# EAGLE library part PCA9661 (library nxp_60)
The PCA9661 is an advanced single master mode I2C-bus controller. It is a fourth generation bus controller designed for data intensive I2C-bus data transfers. AAL Eindhoven MK
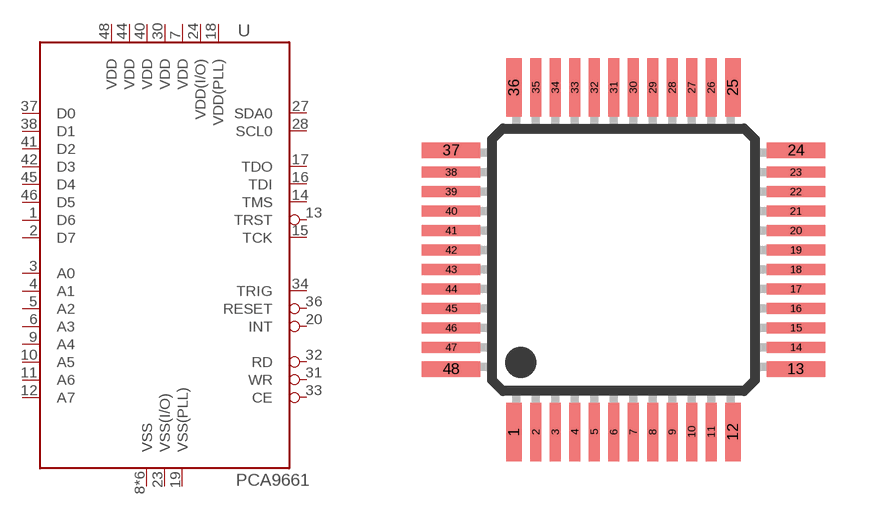
[diagram p49: symbol with the pads of SOT313-2; footprint SOT313-2]

Designator prefix U

## PCA9661B  [SOT313-2]
1  D6
2  D7
3  A0  in
4  A1  in
5  A2  in
6  A3  in
7  VDD  pwr
8  VSS  pwr
9  A4  in
10  A5  in
11  A6  in
12  A7  in
13  TRST  in
14  TMS  in
15  TCK  in
16  TDI  in
17  TDO  out
18  VDD(PLL)  pwr
19  VSS(PLL)  pwr
20  INT  out
23  VSS(I/O)  pwr
24  VDD(I/O)  pwr
27  SDA0
28  SCL0
29  VSS  pwr
30  VDD  pwr
31  WR  in
32  RD  in
33  CE  in
34  TRIG  in
35  VSS  pwr
36  RESET  in
37  D0
38  D1
39  VSS  pwr
40  VDD  pwr
41  D2
42  D3
43  VSS  pwr
44  VDD  pwr
45  D4
46  D5
47  VSS  pwr
48  VDD  pwr

## Footprint SOT313-2 (pad centres in mm)
SOT313-2 LQFP48: plastic low profile quad flat package; 48 leads; body 7 x 7 x 1.4 mm JEDEC: MS-026 IEC: 136E05 Footprint according to NXP SOT313-2 specification, however the cornerpins are 0.4mm in stead of 0.5mm. Probably an error in the specification.
smd 0.4 x 1.5: 1 -2.81,-4.425; 12 2.81,-4.425; 25 2.81,4.425; 36 -2.81,4.425
smd 0.28 x 1.5: 2 -2.25,-4.425; 3 -1.75,-4.425; 4 -1.25,-4.425; 5 -0.75,-4.425; 6 -0.25,-4.425; 7 0.25,-4.425; 8 0.75,-4.425; 9 1.25,-4.425; 10 1.75,-4.425; 11 2.25,-4.425; 26 2.25,4.425; 27 1.75,4.425; 28 1.25,4.425; 29 0.75,4.425; 30 0.25,4.425; 31 -0.25,4.425; 32 -0.75,4.425; 33 -1.25,4.425; 34 -1.75,4.425; 35 -2.25,4.425
smd 1.5 x 0.4: 13 4.425,-2.81; 24 4.425,2.81; 37 -4.425,2.81; 48 -4.425,-2.81
smd 1.5 x 0.28: 14 4.425,-2.25; 15 4.425,-1.75; 16 4.425,-1.25; 17 4.425,-0.75; 18 4.425,-0.25; 19 4.425,0.25; 20 4.425,0.75; 21 4.425,1.25; 22 4.425,1.75; 23 4.425,2.25; 38 -4.425,2.25; 39 -4.425,1.75; 40 -4.425,1.25; 41 -4.425,0.75; 42 -4.425,0.25; 43 -4.425,-0.25; 44 -4.425,-0.75; 45 -4.425,-1.25; 46 -4.425,-1.75; 47 -4.425,-2.25